# Altium schematic symbol library TPS62560DRV.Schlib: 1 symbol
Pins are listed as number, name and electrical type; pins without a type are passive.

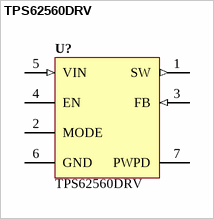
[diagram p0: symbol TPS62560DRV]

## TPS62560DRV
designator U?
2.25MHz,600-mA Step-Down Converter
pins: 1 SW (out), 2 MODE, 3 FB (in), 4 EN (power), 5 VIN (in), 6 GND (power), 7 PWPD